# Altium schematic symbol library SCH - ARM CORTEX - NXP LPC11U68JBD48E.SCHLIB: 1 symbol
Pins are listed as number, name and electrical type; pins without a type are passive.

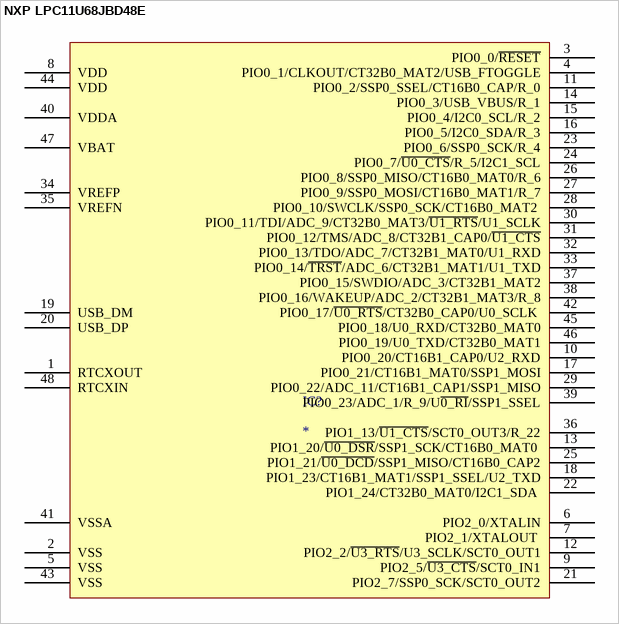
[diagram p0: symbol NXP LPC11U68JBD48E]

## NXP LPC11U68JBD48E
designator IC?
pins: 1 RTCXOUT, 2 VSS, 3 PIO0_0/~{RESET}, 4 PIO0_1/CLKOUT/CT32B0_MAT2/USB_FTOGGLE, 5 VSS, 6 PIO2_0/XTALIN, 7 PIO2_1/XTALOUT , 8 VDD, 9 PIO2_5/~{U3_CTS}/SCT0_IN1, 10 PIO0_20/CT16B1_CAP0/U2_RXD, 11 PIO0_2/SSP0_SSEL/CT16B0_CAP/R_0, 12 PIO2_2/~{U3_RTS}/U3_SCLK/SCT0_OUT1, 13 PIO1_20/~{U0_DSR}/SSP1_SCK/CT16B0_MAT0 , 14 PIO0_3/USB_VBUS/R_1, 15 PIO0_4/I2C0_SCL/R_2, 16 PIO0_5/I2C0_SDA/R_3, 17 PIO0_21/CT16B1_MAT0/SSP1_MOSI, 18 PIO1_23/CT16B1_MAT1/SSP1_SSEL/U2_TXD, 19 USB_DM, 20 USB_DP, 21 PIO2_7/SSP0_SCK/SCT0_OUT2, 22 PIO1_24/CT32B0_MAT0/I2C1_SDA , 23 PIO0_6/SSP0_SCK/R_4, 24 PIO0_7/~{U0_CTS}/R_5/I2C1_SCL, 25 PIO1_21/~{U0_DCD}/SSP1_MISO/CT16B0_CAP2, 26 PIO0_8/SSP0_MISO/CT16B0_MAT0/R_6, 27 PIO0_9/SSP0_MOSI/CT16B0_MAT1/R_7, 28 PIO0_10/SWCLK/SSP0_SCK/CT16B0_MAT2 , 29 PIO0_22/ADC_11/CT16B1_CAP1/SSP1_MISO, 30 PIO0_11/TDI/ADC_9/CT32B0_MAT3/~{U1_RTS}/U1_SCLK, 31 PIO0_12/TMS/ADC_8/CT32B1_CAP0/~{U1_CTS}, 32 PIO0_13/TDO/ADC_7/CT32B1_MAT0/U1_RXD, 33 PIO0_14/~{TRST}/ADC_6/CT32B1_MAT1/U1_TXD, 34 VREFP, 35 VREFN, 36 PIO1_13/~{U1_CTS}/SCT0_OUT3/R_22, 37 PIO0_15/SWDIO/ADC_3/CT32B1_MAT2, 38 PIO0_16/WAKEUP/ADC_2/CT32B1_MAT3/R_8, 39 PIO0_23/ADC_1/R_9/U~{0_RI}/SSP1_SSEL, 40 VDDA, 41 VSSA, 42 PIO0_17/~{U0_RTS}/CT32B0_CAP0/U0_SCLK , 43 VSS, 44 VDD, 45 PIO0_18/U0_RXD/CT32B0_MAT0, 46 PIO0_19/U0_TXD/CT32B0_MAT1, 47 VBAT, 48 RTCXIN